# EAGLE library part HDC1080DMBR (library HDC1080)
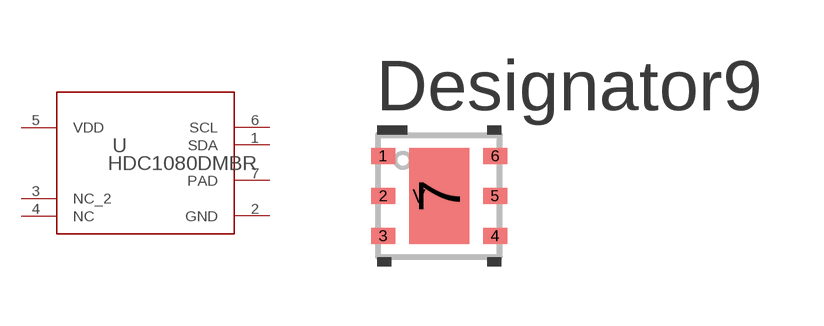
[diagram p0: symbol with the pads of DMB0006A; footprint DMB0006A]

Designator prefix U

## HDC1080DMBR (ALTERNATEPARTNUMBER: HDC1080DMBT; APPLICATION_BUILDNUMBER: *; COMPTYPE: IC; MANUFACTURER: Texas Instruments; MOUNTTYPE: SMT; PACKAGEREFERENCE: DMB0006A; PARTNUMBER: HDC1080DMBR; PIN_COUNT: 7; REFDES: RefDes; TYPE: TYPE; VALUE: Value)  [DMB0006A]
1  SDA
2  GND  pwr
3  NC_2  pas
4  NC  pas
5  VDD  pwr
6  SCL  oc
7  PAD  pwr

## Footprint DMB0006A (pad centres in mm)
smd 0.6 x 0.4: 1 -1.4,1; 2 -1.4,0; 3 -1.4,-1; 4 1.4,-1; 5 1.4,0; 6 1.4,1
smd 1.5 x 2.4: 7 0,0
smd 0.5 x 0.5: V -0.5,0